# Altium integrated library NEMA_PANDORA.IntLib: 29 symbols
Pins are listed as number, name and electrical type; pins without a type are passive.

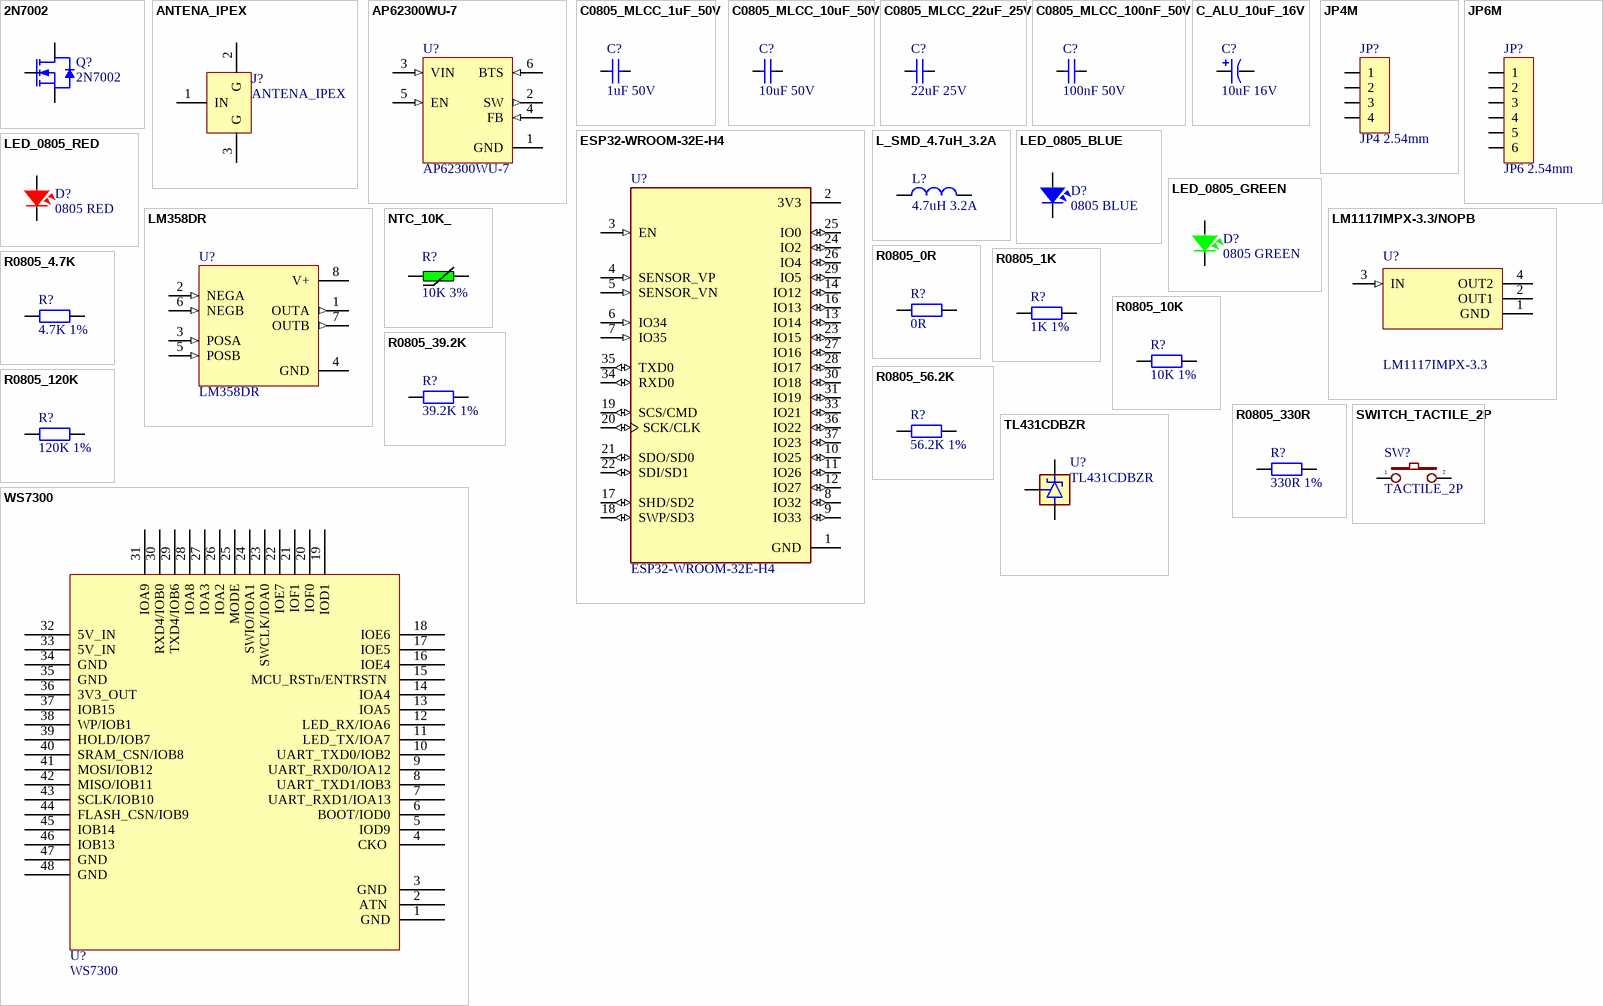
[diagram p0: symbols 2N7002 to WS7300]

## 2N7002
designator Q?
N-Channel 60 V 115mA (Ta) 200mW (Ta) Surface Mount SOT-23-3; Manufacturer: onsemi; Manufacture Part Number: 2N7002; Packaging: Cut Tape (CT); Link: https://www.digikey.com/en/products/detail/onsemi/2N7002/244664; Price: $0.45
footprint SOT-23-3
pins: 1 G, 2 D, 3 S

## ANTENA_IPEX
designator J?
U.FL (UMCC), IPEX MHFI Connector Receptacle, Male Pin Surface Mount Solder; Manufacturer: I-PEX; Manufacture Part Number: 20279-001E-03; Packaging: Cut Tape (CT); Link: https://www.digikey.com/en/products/detail/i-pex/20279-001E-03/22108814; Price: $1.77
footprint IPEX
pins: 1 IN, 2 G, 3 G

## AP62300WU-7
designator U?
Buck Switching Regulator IC Positive Adjustable 0.8V 1 Output 3A SOT-23-6 Thin, TSOT-23-6; Manufacturer: Diodes Incorporated; Manufacture Part Number: AP62300WU-7; Packaging: Cut Tape (CT); Link: https://www.digikey.cn/en/products/detail/diodes-incorporated/AP62300WU-7/12324870?s=N4IgTCBcDaIIIAUBsYDMAGdB1AqiAugL5A; Price: $0.46
footprint SOT-23-6
pins: 1 GND, 2 SW (out), 3 VIN (in), 4 FB (in), 5 EN (in), 6 BTS (in)
text: /

## C0805_MLCC_1uF_50V
designator C?, comment 1uF 50V
1 µF ±10% 50V Ceramic Capacitor X7R 0805 (2012 Metric); Manufacturer: Samsung Electro-Mechanics; Manufacture Part Number: CL21B105KBFNNNG; Packaging: Cut Tape (CT); Link: https://www.digikey.cn/en/products/detail/samsung-electro-mechanics/CL21B105KBFNNNG/3894467; Price: $0.11
footprint CAP_SMD_0805
pins: 1, 2

## C0805_MLCC_10uF_50V
designator C?, comment 10uF 50V
10 µF ±20% 50V Ceramic Capacitor X5R 0805 (2012 Metric); Manufacturer: Murata Electronics; Manufacture Part Number: GRM21BR61H106ME43L; Packaging: Cut Tape (CT); Link: https://www.digikey.cn/en/products/detail/murata-electronics/GRM21BR61H106ME43L/10326317; Price: $0.34
footprint CAP_SMD_0805
pins: 1, 2

## C0805_MLCC_22uF_25V
designator C?, comment 22uF 25V
22 µF ±20% 25V Ceramic Capacitor X5R 0805 (2012 Metric); Manufacturer: Samsung Electro-Mechanics; Manufacture Part Number: CL21A226MAYNNNE; Packaging: Cut Tape (CT); Link: https://www.digikey.cn/en/products/detail/samsung-electro-mechanics/CL21A226MAYNNNE/10479857; Price: $0.25
footprint CAP_SMD_0805
pins: 1, 2

## C0805_MLCC_100nF_50V
designator C?, comment 100nF 50V
0.1 µF ±10% 50V Ceramic Capacitor X7R 0805 (2012 Metric); Manufacturer: YAGEO; Manufacture Part Number: CC0805KRX7R9BB104; Packaging: Cut Tape (CT); Link: https://www.digikey.cn/en/products/detail/yageo/CC0805KRX7R9BB104/302874; Price: $0.10
footprint CAP_SMD_0805
pins: 1, 2

## C_ALU_10uF_16V
designator C?, comment 10uF 16V
10 µF 16 V Aluminum - Polymer Capacitors Radial, Can - SMD 30mOhm 2000 Hrs @ 105°C; Manufacturer: Würth Elektronik; Manufacture Part Number: 875105359001; Packaging: Cut Tape (CT); Size code: C; Link: https://www.digikey.cn/en/products/detail/w%C3%BCrth-elektronik/875105359001/5147580; Price: $0.51
footprint CAP-ALU-SMD-C
pins: 1, 2

## ESP32-WROOM-32E-H4
designator U?
Bluetooth, WiFi 802.11b/g/n, Bluetooth v4.2 +EDR, Class 1, 2 and 3 Transceiver Module 2.4GHz ~ 2.5GHz Integrated, Trace Surface Mount; Manufacturer: Espressif Systems; Manufacture Part Number: ESP32-WROOM-32E-H4; Packaging: Cut Tape (CT); Link: https://www.digikey.cn/en/products/detail/espressif-systems/ESP32-WROOM-32E-H4/12696413; Price: $2.68
footprint ESP32-WROOM-32
pins: 1 GND (power), 2 3V3 (power), 3 EN (in), 4 SENSOR_VP (in), 5 SENSOR_VN (in), 6 IO34 (in), 7 IO35 (in), 8 IO32 (io), 9 IO33 (io), 10 IO25 (io), 11 IO26 (io), 12 IO27 (io), 13 IO14 (io), 14 IO12 (io), 15 GND (power), 16 IO13 (io), 17 SHD/SD2 (io), 18 SWP/SD3 (io), 19 SCS/CMD (io), 20 SCK/CLK (io), 21 SDO/SD0 (io), 22 SDI/SD1 (io), 23 IO15 (io), 24 IO2 (io), 25 IO0 (io), 26 IO4 (io), 27 IO16 (io), 28 IO17 (io), 29 IO5 (io), 30 IO18 (io), 31 IO19 (io), 33 IO21 (io), 34 RXD0 (io), 35 TXD0 (io), 36 IO22 (io), 37 IO23 (io), 38 GND (power), 39_1 GND (power), 39_2 GND (power), 39_3 GND (power), 39_4 GND (power), 39_5 GND (power), 39_6 GND (power), 39_7 GND (power), 39_8 GND (power), 39_9 GND (power), 39_10 GND (power), 39_11 GND (power), 39_12 GND (power), 39_13 GND (power), 39_14 GND (power), 39_15 GND (power), 39_16 GND (power), 39_17 GND (power), 39_18 GND (power), 39_19 GND (power), 39_20 GND (power), 39_21 GND (power)

## JP4M
designator JP?, comment JP4 2.54mm
Connector Header Through Hole 4 position 0.100" (2.54mm); Manufacturer: Würth Elektronik; Manufacture Part Number: 61300411121; Packaging: Bulk; Link: https://www.digikey.cn/en/products/detail/w%C3%BCrth-elektronik/61300411121/4846827?s=N4IgTCBcDaIGwEYDMAGFAWBWwJAXQF8g; Price: $0.19
footprint JP4_M
pins: 1, 2, 3, 4

## JP6M
designator JP?, comment JP6 2.54mm
Connector Header Through Hole 6 position 0.100" (2.54mm); Manufacturer: Würth Elektronik; Manufacture Part Number: 61300611121; Packaging: Bulk; Link: https://www.digikey.cn/en/products/detail/w%C3%BCrth-elektronik/61300611121/4846833; Price: $0.35
footprint JP6_M
pins: 1, 2, 3, 4, 5, 6

## L_SMD_4.7uH_3.2A
designator L?, comment 4.7uH 3.2A
4.7 µH Shielded Molded Inductor 3.2 A 81.3mOhm Max Nonstandard; Manufacturer: Vishay Dale; Manufacture Part Number: IHLP2020BZER4R7M11; Packaging: Cut Tape (CT); Link: https://www.digikey.com/en/products/detail/vishay-dale/IHLP2020BZER4R7M11/2025062; Price: $1.19
footprint L_5.5X5.2
pins: 1, 2

## LED_0805_BLUE
designator D?, comment 0805 BLUE
Blue 470nm LED Indication - Discrete 3.2V 0805 (2012 Metric); Manufacturer: Würth Elektronik; Manufacture Part Number: 150080BS75000; Packaging: Cut Tape (CT); Link: https://www.digikey.cn/en/products/detail/w%C3%BCrth-elektronik/150080BS75000/4489912; Price: $0.19
footprint LED-0805-Blue
pins: 1, 2

## LED_0805_GREEN
designator D?, comment 0805 GREEN
Green 520nm LED Indication - Discrete 3.2V 0805 (2012 Metric); Manufacturer: Würth Elektronik; Manufacture Part Number: 150080GS75000; Packaging: Cut Tape (CT); Link: https://www.digikey.cn/en/products/detail/w%C3%BCrth-elektronik/150080GS75000/4489915; Price: $0.19
footprint LED-0805-Green
pins: 1, 2

## LED_0805_RED
designator D?, comment 0805 RED
Red 625nm LED Indication - Discrete 2V 0805 (2012 Metric); Manufacturer: Würth Elektronik; Manufacture Part Number: 150080RS75000; Packaging: Cut Tape (CT); Link: https://www.digikey.cn/en/products/detail/w%C3%BCrth-elektronik/150080RS75000/4489918; Price: $0.19
footprint LED-0805-Red
pins: 1, 2

## LM358DR
designator U?
General Purpose Amplifier 2 Circuit 8-SOIC; Manufacturer: Texas Instruments; Manufacture Part Number: LM358DR; Packaging: Cut Tape (CT); Link: https://www.digikey.cn/en/products/detail/texas-instruments/LM358DR/276658; Price: $0.41
footprint 8 - SOIC
pins: 1 OUTA (out), 2 NEGA (in), 3 POSA (in), 4 GND, 5 POSB (in), 6 NEGB (in), 7 OUTB (out), 8 V+

## LM1117IMPX-3.3/NOPB
designator U?, comment LM1117IMPX-3.3
Linear Voltage Regulator IC Positive Fixed 1 Output 800mA SOT-223-4; Manufacturer: Texas Instruments; Manufacture Part Number: LM1117IMPX-3.3/NOPB; Packaging: Cut Tape (CT); Link: https://www.digikey.cn/en/products/detail/texas-instruments/LM1117IMPX-3-3-NOPB/1870906; Price: $1.14
footprint SOT-223-4
pins: 1 GND , 2 OUT1 (power), 3 IN (in), 4 OUT2 (power)
text: /

## NTC_10K_
designator R?, comment 10K 3%
NTC Thermistor 10k Bead; Manufacturer: Vishay Beyschlag/Draloric/BC Components; Manufacture Part Number: NTCLE203E3103HB0; Packaging: Bulk; Link: https://www.digikey.com/en/products/detail/vishay-beyschlag-draloric-bc-components/NTCLE203E3103HB0/2230772; Price: $0.13
footprint NTC_2.54.
pins: 1, 2

## R0805_0R
designator R?, comment 0R
0 Ohms Jumper Chip Resistor 0805 (2012 Metric) Automotive AEC-Q200 Thick Film; Manufacturer: Vishay Dale; Manufacture Part Number: CRCW08050000Z0EA; Packaging: Cut Tape (CT); Link: https://www.digikey.cn/en/products/detail/vishay-dale/CRCW08050000Z0EA/1175125; Price: $0.10
footprint RES_SMD_0805
pins: 1, 2

## R0805_1K
designator R?, comment 1K 1%
1 kOhms ±1% 0.125W, 1/8W Chip Resistor 0805 (2012 Metric) Moisture Resistant Thick Film; Manufacturer: YAGEO; Manufacture Part Number: 311-1.00KCRCT-ND; Packaging: Cut Tape (CT); Link: https://www.digikey.com/en/products/detail/yageo/RC0805FR-071KL/727444; Price: $0.10
footprint RES_SMD_0805
pins: 1, 2

## R0805_4.7K
designator R?, comment 4.7K 1%
4.7 kOhms ±1% 0.125W, 1/8W Chip Resistor 0805 (2012 Metric) Thick Film; Manufacturer: Vishay Dale; Manufacture Part Number: CRCW08054K70FKEAC; Packaging: Cut Tape (CT); Link: https://www.digikey.com/en/products/detail/vishay-dale/CRCW08054K70FKEAC/7928553; Price: $0.10
footprint RES_SMD_0805
pins: 1, 2

## R0805_10K
designator R?, comment 10K 1%
10 kOhms ±1% 0.125W, 1/8W Chip Resistor 0805 (2012 Metric) Moisture Resistant Thick Film; Manufacturer: YAGEO; Manufacture Part Number: RC0805FR-0710KL; Packaging: Cut Tape (CT); Price: $0.10; Link: https://www.digikey.cn/en/products/detail/yageo/RC0805FR-0710KL/727535
footprint RES_SMD_0805
pins: 1, 2

## R0805_39.2K
designator R?, comment 39.2K 1%
39.2 kOhms ±1% 0.125W, 1/8W Chip Resistor 0805 (2012 Metric) Moisture Resistant Thick Film; Manufacturer: YAGEO; Manufacture Part Number: RC0805FR-0739K2L; Packaging: Cut Tape (CT); Link: https://www.digikey.com/en/products/detail/yageo/RC0805FR-0739K2L/727901; Price: $0.10
footprint RES_SMD_0805
pins: 1, 2

## R0805_56.2K
designator R?, comment 56.2K 1%
56.2 kOhms ±1% 0.125W, 1/8W Chip Resistor 0805 (2012 Metric) Moisture Resistant Thick Film; Manufacturer: YAGEO; Manufacture Part Number: RC0805FR-0756K2L; Packaging: Cut Tape (CT); Link: https://www.digikey.com/en/products/detail/yageo/RC0805FR-0756K2L/728035; Price: $0.10
footprint RES_SMD_0805
pins: 1, 2

## R0805_120K
designator R?, comment 120K 1%
120 kOhms ±1% 0.125W, 1/8W Chip Resistor 0805 (2012 Metric) Moisture Resistant Thick Film; Manufacturer: YAGEO; Manufacture Part Number: RC0805FR-07120KL; Packaging: Cut Tape (CT); Link: https://www.digikey.com/en/products/detail/yageo/RC0805FR-07120KL/727576; Price: $0.10
footprint RES_SMD_0805
pins: 1, 2

## R0805_330R
designator R?, comment 330R 1%
330 Ohms ±1% 0.125W, 1/8W Chip Resistor 0805 (2012 Metric) Automotive AEC-Q200 Thick Film; Manufacturer: Stackpole Electronics Inc; Manufacture Part Number: RMCF0805FT330R; Packaging: Cut Tape (CT); Link: https://www.digikey.cn/en/products/detail/stackpole-electronics-inc/RMCF0805FT330R/1760484; Price: $0.10
footprint RES_SMD_0805
pins: 1, 2

## SWITCH_TACTILE_2P
designator SW?, comment TACTILE_2P
Tactile Switch SPST-NO Top Actuated Surface Mount; Manufacturer: C&K; Manufacture Part Number: PTS636 SM43 SMTR LFS; Packaging: Cut Tape (CT); Link: https://www.digikey.com/en/products/detail/c-k/PTS636-SM43-SMTR-LFS/10071723; Price: $0.19
footprint C&K BUTTON 2P
pins: 1, 2

## TL431CDBZR
designator U?
Shunt Voltage Reference IC Adjustable 2.495V 36 VV ±2.2% 100 mA SOT-23-3; Manufacturer: Texas Instruments; Manufacture Part Number: TL431CDBZR; Packaging: Cut Tape (CT); Link: https://www.digikey.com/en/products/detail/texas-instruments/TL431CDBZR/686858; Price: $0.47
footprint SOT-23-3
pins: 1 CATHODE, 2 REF, 3 ANODE
text: /

## WS7300
designator U?
Wi-SUN wireless communication modules based on the VC7300BU chip from Lireda; Manufacturer: Lireda; Manufacture Part Number: WS7300
footprint WS7300-S
pins: 1 GND, 2 ATN , 3 GND , 4 CKO , 5 IOD9, 6 BOOT/IOD0, 7 UART_RXD1/IOA13, 8 UART_TXD1/IOB3, 9 UART_RXD0/IOA12, 10 UART_TXD0/IOB2, 11 LED_TX/IOA7, 12 LED_RX/IOA6, 13 IOA5, 14 IOA4, 15 MCU_RSTn/ENTRSTN , 16 IOE4, 17 IOE5, 18 IOE6, 19 IOD1, 20 IOF0, 21 IOF1, 22 IOE7, 23 SWCLK/IOA0, 24 SWIO/IOA1, 25 MODE, 26 IOA2, 27 IOA3, 28 IOA8, 29 TXD4/IOB6, 30 RXD4/IOB0, 31 IOA9, 32 5V_IN, 33 5V_IN, 34 GND, 35 GND, 36 3V3_OUT, 37 IOB15, 38 WP/IOB1, 39 HOLD/IOB7, 40 SRAM_CSN/IOB8, 41 MOSI/IOB12, 42 MISO/IOB11, 43 SCLK/IOB10, 44 FLASH_CSN/IOB9, 45 IOB14, 46 IOB13, 47 GND, 48 GND